# Altium schematic symbol library DC.SPL.0400.0035.Schlib: 1 symbol
Pins are listed as number, name and electrical type; pins without a type are passive.

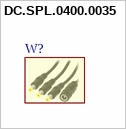
[diagram p0: symbol DC.SPL.0400.0035]

## DC.SPL.0400.0035
designator W?  (value not drawn)  (mechanical)